# EAGLE library part ADUM1201 (library Analog Devices)
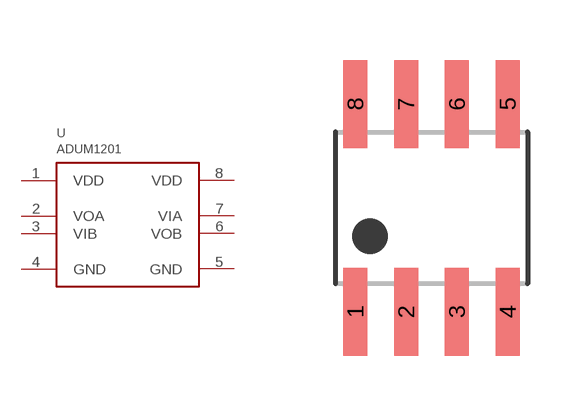
[diagram p65: symbol with the pads of SOIC8; footprint SOIC8]

Designator prefix U

## ADUM1201  [SOIC8]
1  VDD
2  VOA
3  VIB
4  GND
5  GND
6  VOB
7  VIA
8  VDD

## Footprint SOIC8 (pad centres in mm)
smd 0.6 x 2.2: 1 -1.905,-2.6; 2 -0.635,-2.6; 3 0.635,-2.6; 4 1.905,-2.6; 5 1.905,2.6; 6 0.635,2.6; 7 -0.635,2.6; 8 -1.905,2.6